# Altium integrated library TI Power Management Power Modules.IntLib: 831 symbols (part 32 of 44)
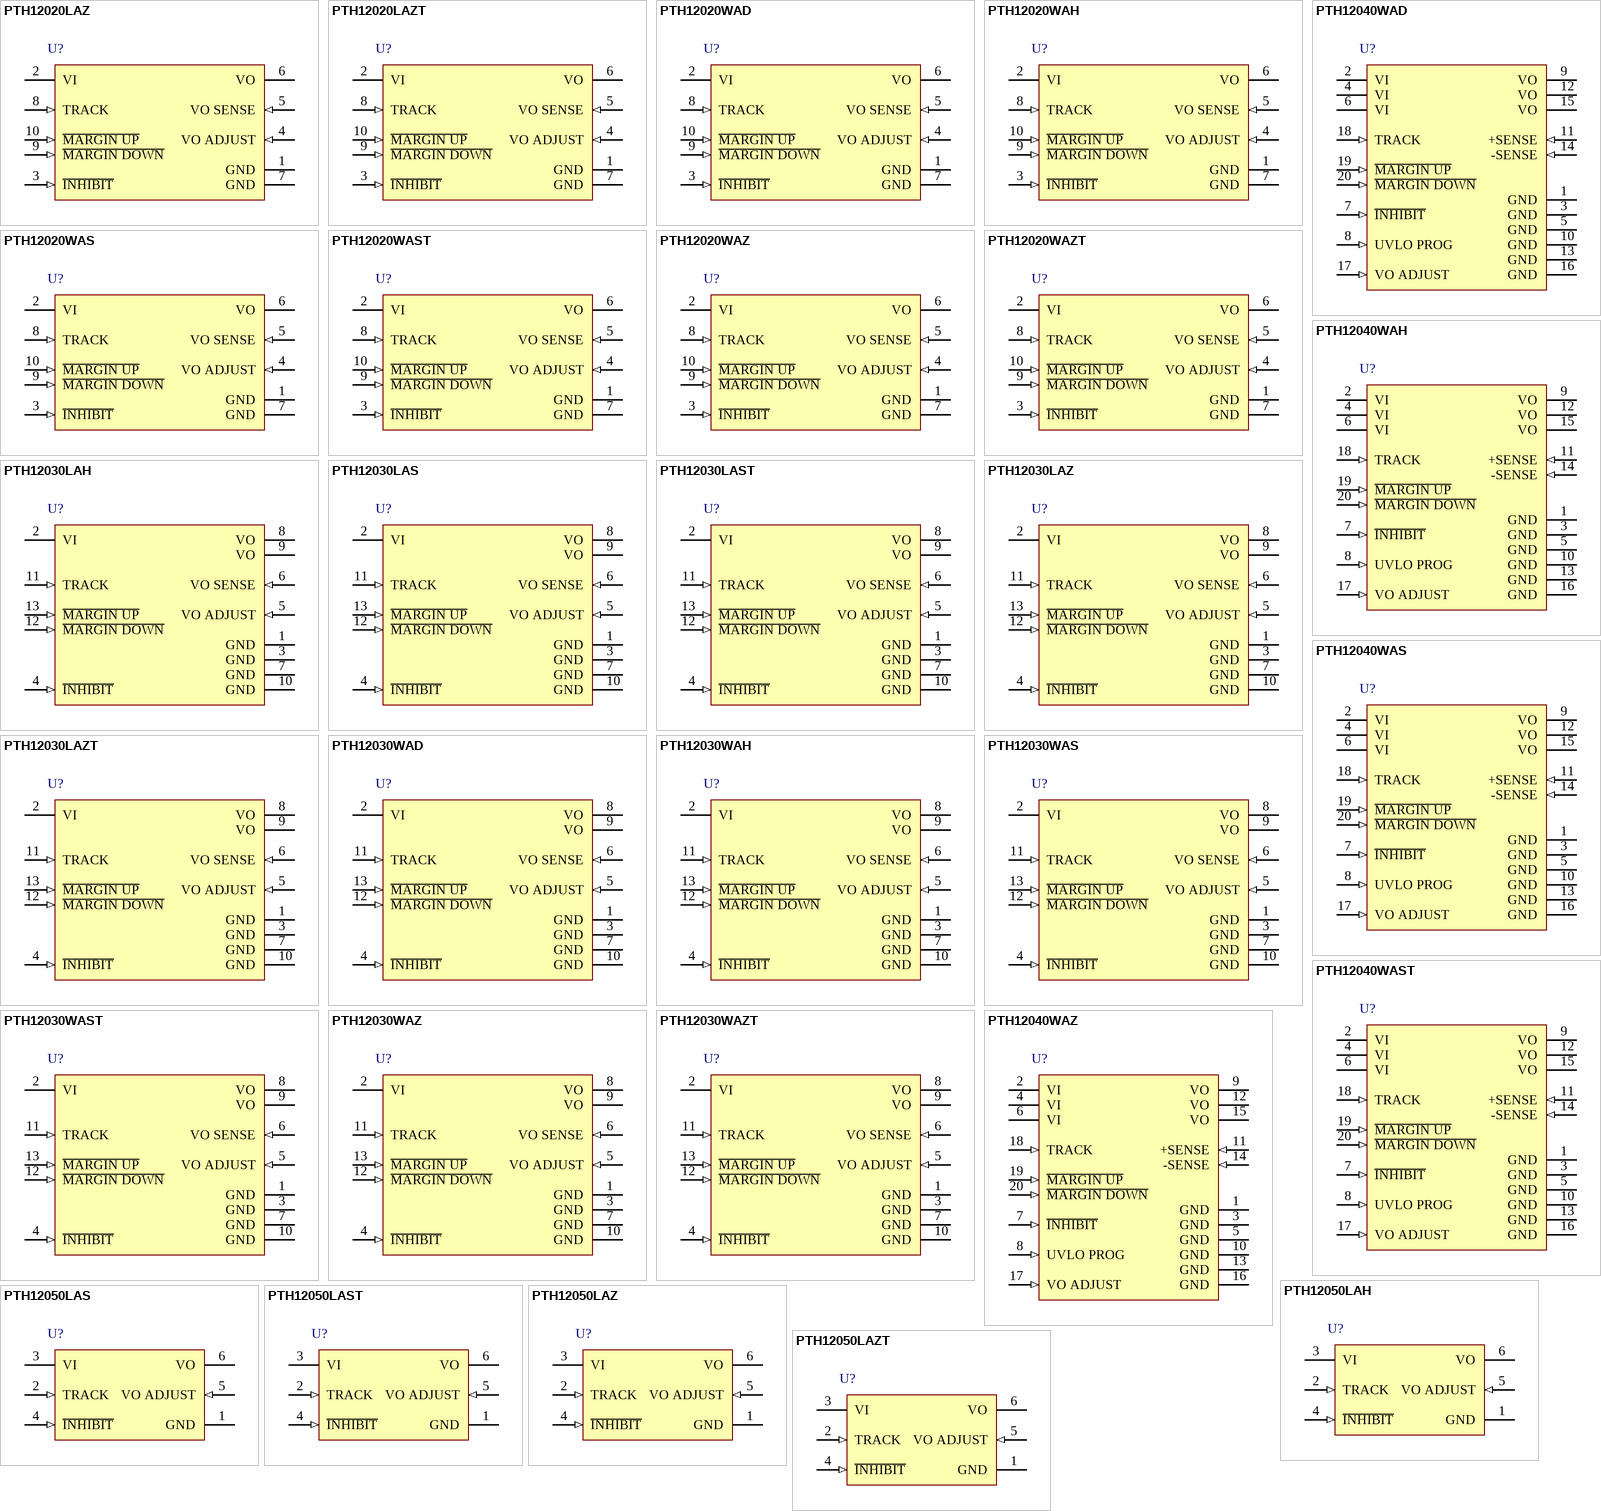
[diagram p54: symbols PTH12020LAZ to PTH12050LAZT]

## PTH12030WAZT
designator U?
1.2 to 5.5 V, 26 A, 12 V Input Non-Isolated Wide Adjust Module, -40 to 85 degC, 13-pin Module (EUN13), Pb-Free (RoHS); Manufacturer: Texas Instruments; PartNumber: PTH12030WAZT; Iout(Max)(A): 26; Regulated Outputs(#): 1; SubFamily: Non-Isolated POL; Vin(Max)(V): 13.8; Vin(Min)(V): 10.2; VO Adjustable: TRUE; Vout(Max)(V): 5.5; Vout(Min)(V): 1.2; DatasheetVersion: SLTS211H; PackageVersion: 4204989/B; PackageReference: EUN13; PackageDescription: 13-Pin Plastic Special Shape. Body 28.45 x 34.8 mm; Supplier 1: Digi-Key; Supplier Part Number 1: PTH12030WAZT-ND; Supplier 2: Newark; Supplier Part Number 2: 37K0749; Supplier 3: Mouser; Supplier Part Number 3: 595-PTH12030WAZT; Eco-Plan: Pb-Free (RoHS); Mounting Technology: Surface Mount; ComponentLink1Description: Manufacturer URL; ComponentLink1URL: http://www.ti.com/; ComponentLink2Description: Datasheet; ComponentLink2URL: http://www.ti.com/general/docs/lit/getliterature.tsp?genericPartNumber=PTH12030W&fileType=pdf; ComponentLink3Description: Package Specification; ComponentLink3URL: http://www.ti.com/lit/ml/mpds135a/mpds135a.pdf; ComponentLink4Description: URL Link1; ComponentLink4URL: Samples URL:http://www.ti.com/product/pth12030w#samples
footprint TI-EUN13_V (Module, 13-Leads, Body 34.8x28.45mm)
pins: 1 GND (power) "This is the common ground connection for the VI and VO power connections. It is also the 0 Vdc reference for the control inputs.", 2 VI (power) "The positive input voltage power node to the module, which is referenced to common GND.", 3 GND (power) "This is the common ground connection for the VI and VO power connections. It is also the 0 Vdc reference for the control inputs.", 4 ~{INHIBIT} (in) "The Inhibit pin is an open-collector/drain negative logic input that is referenced to GND. Applying a low-level ground signal to this input disables the module’s output and turns off the output voltage. When the Inhibit (See Datasheet)", 5 VO ADJUST (in) "A 1% resistor must be directly connected between this pin and pin 7 (GND) to set the output voltage to a value higher than 0.8 V. The temperature stability of the resistor should be 100 ppm/degreesC (or better). The set (See Datasheet)", 6 VO SENSE (in) "The sense input allows the regulation circuit to compensate for voltage drop between the module and the load. For optimal voltage accuracy, VO Sense should be connected to Vout. It can also be left disconnected.", 7 GND (power) "This is the common ground connection for the VI and VO power connections. It is also the 0 Vdc reference for the control inputs.", 8 VO (power) "The regulated positive power output with respect to the GND node.", 9 VO (power) "The regulated positive power output with respect to the GND node.", 10 GND (power) "This is the common ground connection for the VI and VO power connections. It is also the 0 Vdc reference for the control inputs.", 11 TRACK (in) "This is an analog control input that enables the output voltage to follow an external voltage. This pin becomes active typically 20 ms after the input voltage has been applied, and allows direct control of the output voltage (See Datasheet)", 12 ~{MARGIN DOWN} (in) "When this input is asserted to GND, the output voltage is decreased by 5% from the nominal. The input requires an open-collector (open-drain) interface. It is not TTL compatible. A lower percent change can be accomodated (See Datasheet)", 13 ~{MARGIN UP} (in) "When this input is asserted to GND, the output voltage is increased by 5%. The input requires an open-collector (open-drain) interface. It is not TTL compatible. The percent change can be reduced with a series resistor. For (See Datasheet)"

## PTH12040WAD
designator U?
50 A, 8 to 14 V Input, Wide-Output Adjust Power Module, -40 to 85 degC, 20-pin Module (EVF20), Pb-Free (RoHS); Manufacturer: Texas Instruments; PartNumber: PTH12040WAD; Iout(Max)(A): 50; Regulated Outputs(#): 1; SubFamily: Non-Isolated POL; Vin(Max)(V): 14; Vin(Min)(V): 8; VO Adjustable: TRUE; Vout(Max)(V): 5.5; Vout(Min)(V): 0.8; DatasheetVersion: SLTS237G; PackageVersion: 4205911/A; PackageReference: EVF20; PackageDescription: 20-Pin Plastic Special Shape, Body 26.54 x 51.94 mm; Supplier 1: Digi-Key; Supplier Part Number 1: 296-26313-ND; Supplier 2: Newark; Supplier Part Number 2: 63K6093; Supplier 3: Mouser; Supplier Part Number 3: 595-PTH12040WAD; Eco-Plan: Pb-Free (RoHS); Mounting Technology: Through Hole; ComponentLink1Description: Manufacturer URL; ComponentLink1URL: http://www.ti.com/; ComponentLink2Description: Datasheet; ComponentLink2URL: http://www.ti.com/general/docs/lit/getliterature.tsp?genericPartNumber=PTH12040W&fileType=pdf; ComponentLink3Description: Package Specification; ComponentLink3URL: http://www.ti.com/litv/pdf/mpds166; ComponentLink4Description: URL Link1; ComponentLink4URL: Samples URL:http://www.ti.com/product/pth12040w#samples
footprint TI-EVF20_V (Module, 20-Leads, Body 51.94x26.54mm)
pins: 1 GND (power) "This is the common ground connection for the VI and VO power connections. It is also the 0 Vdc reference for the control inputs.", 2 VI (power) "The positive input voltage power node to the module, which is referenced to common GND.", 3 GND (power) "This is the common ground connection for the VI and VO power connections. It is also the 0 Vdc reference for the control inputs.", 4 VI (power) "The positive input voltage power node to the module, which is referenced to common GND.", 5 GND (power) "This is the common ground connection for the VI and VO power connections. It is also the 0 Vdc reference for the control inputs.", 6 VI (power) "The positive input voltage power node to the module, which is referenced to common GND.", 7 ~{INHIBIT} (in) "The Inhibit pin is an open-collector/drain negative logic input that is referenced to GND. Applying a low level ground signal to this input disables the module’s output and turns off the output voltage. When the Inhibit (See Datasheet)", 8 UVLO PROG (in) "Connecting a resistor from this pin to signal ground allows the on threshold of the input undervoltage lockout (UVLO) to be adjusted higher than the default value. The hysterisis can also be independently reduced by (See Datasheet)", 9 VO (power) "The regulated positive power output with respect to the GND node.", 10 GND (power) "This is the common ground connection for the VI and VO power connections. It is also the 0 Vdc reference for the control inputs.", 11 +SENSE (in) "The sense inputs allow the regulation circuit to compensate for voltage drop between the module and the load. For optimal voltage accuracy, +Sense should be connected to VO. If it is left open, a low-value internal resistor (See Datasheet)", 12 VO (power) "The regulated positive power output with respect to the GND node.", 13 GND (power) "This is the common ground connection for the VI and VO power connections. It is also the 0 Vdc reference for the control inputs.", 14 -SENSE (in) "For optimal voltage accuracy, -Sense should be connected to the ground return at the load. If it is left open, a low-value internal resistor ensures that the output remains in regulation.", 15 VO (power) "The regulated positive power output with respect to the GND node.", 16 GND (power) "This is the common ground connection for the VI and VO power connections. It is also the 0 Vdc reference for the control inputs.", 17 VO ADJUST (in) "A 1%, 0.05-W resistor must be connected between this pin and GND to set the output voltage higher than the minimum value. The set-point range for the output voltage is from 0.8 V to 2.5 V. The resistor required for a given (See Datasheet)", 18 TRACK (in) "This is an analog control input that allows the output voltage to follow another voltage during power up and power down sequences. The pin is active from 0 V, up to the nominal set-point voltage. Within this range, the (See Datasheet)", 19 ~{MARGIN UP} (in) "When this input is asserted to GND, the output voltage is increased by 5%. The input requires an open collector (open-drain) interface. It is not TTL compatible. The percent change can be reduced with a series resistor. For (See Datasheet)", 20 ~{MARGIN DOWN} (in) "When this input is asserted to GND, the output voltage is decreased by 5% from the nominal. The input requires an open-collector (open-drain) interface. It is not TTL compatible. A lower percent change can be accommodated (See Datasheet)"

## PTH12040WAH
designator U?
50 A, 8 to 14 V Input, Wide-Output Adjust Power Module, -40 to 85 degC, 20-pin Module (EVF20), Pb-Free (RoHS); Manufacturer: Texas Instruments; PartNumber: PTH12040WAH; Iout(Max)(A): 50; Regulated Outputs(#): 1; SubFamily: Non-Isolated POL; Vin(Max)(V): 14; Vin(Min)(V): 8; VO Adjustable: TRUE; Vout(Max)(V): 5.5; Vout(Min)(V): 0.8; DatasheetVersion: SLTS237G; PackageVersion: 4205911/A; PackageReference: EVF20; PackageDescription: 20-Pin Plastic Special Shape, Body 26.54 x 51.94 mm; Supplier 1: Digi-Key; Supplier Part Number 1: 296-20472-ND; Supplier 2: Newark; Supplier Part Number 2: 71J7322; Supplier 3: Mouser; Supplier Part Number 3: 595-PTH12040WAH; Eco-Plan: Pb-Free (RoHS); Mounting Technology: Through Hole; ComponentLink1Description: Manufacturer URL; ComponentLink1URL: http://www.ti.com/; ComponentLink2Description: Datasheet; ComponentLink2URL: http://www.ti.com/general/docs/lit/getliterature.tsp?genericPartNumber=PTH12040W&fileType=pdf; ComponentLink3Description: Package Specification; ComponentLink3URL: http://www.ti.com/litv/pdf/mpds166; ComponentLink4Description: URL Link1; ComponentLink4URL: Samples URL:http://www.ti.com/product/pth12040w#samples
footprint TI-EVF20_V (Module, 20-Leads, Body 51.94x26.54mm)
pins: 1 GND (power) "This is the common ground connection for the VI and VO power connections. It is also the 0 Vdc reference for the control inputs.", 2 VI (power) "The positive input voltage power node to the module, which is referenced to common GND.", 3 GND (power) "This is the common ground connection for the VI and VO power connections. It is also the 0 Vdc reference for the control inputs.", 4 VI (power) "The positive input voltage power node to the module, which is referenced to common GND.", 5 GND (power) "This is the common ground connection for the VI and VO power connections. It is also the 0 Vdc reference for the control inputs.", 6 VI (power) "The positive input voltage power node to the module, which is referenced to common GND.", 7 ~{INHIBIT} (in) "The Inhibit pin is an open-collector/drain negative logic input that is referenced to GND. Applying a low level ground signal to this input disables the module’s output and turns off the output voltage. When the Inhibit (See Datasheet)", 8 UVLO PROG (in) "Connecting a resistor from this pin to signal ground allows the on threshold of the input undervoltage lockout (UVLO) to be adjusted higher than the default value. The hysterisis can also be independently reduced by (See Datasheet)", 9 VO (power) "The regulated positive power output with respect to the GND node.", 10 GND (power) "This is the common ground connection for the VI and VO power connections. It is also the 0 Vdc reference for the control inputs.", 11 +SENSE (in) "The sense inputs allow the regulation circuit to compensate for voltage drop between the module and the load. For optimal voltage accuracy, +Sense should be connected to VO. If it is left open, a low-value internal resistor (See Datasheet)", 12 VO (power) "The regulated positive power output with respect to the GND node.", 13 GND (power) "This is the common ground connection for the VI and VO power connections. It is also the 0 Vdc reference for the control inputs.", 14 -SENSE (in) "For optimal voltage accuracy, -Sense should be connected to the ground return at the load. If it is left open, a low-value internal resistor ensures that the output remains in regulation.", 15 VO (power) "The regulated positive power output with respect to the GND node.", 16 GND (power) "This is the common ground connection for the VI and VO power connections. It is also the 0 Vdc reference for the control inputs.", 17 VO ADJUST (in) "A 1%, 0.05-W resistor must be connected between this pin and GND to set the output voltage higher than the minimum value. The set-point range for the output voltage is from 0.8 V to 2.5 V. The resistor required for a given (See Datasheet)", 18 TRACK (in) "This is an analog control input that allows the output voltage to follow another voltage during power up and power down sequences. The pin is active from 0 V, up to the nominal set-point voltage. Within this range, the (See Datasheet)", 19 ~{MARGIN UP} (in) "When this input is asserted to GND, the output voltage is increased by 5%. The input requires an open collector (open-drain) interface. It is not TTL compatible. The percent change can be reduced with a series resistor. For (See Datasheet)", 20 ~{MARGIN DOWN} (in) "When this input is asserted to GND, the output voltage is decreased by 5% from the nominal. The input requires an open-collector (open-drain) interface. It is not TTL compatible. A lower percent change can be accommodated (See Datasheet)"

## PTH12040WAS
designator U?
50 A, 8 to 14 V Input, Wide-Output Adjust Power Module, -40 to 85 degC, 20-pin Module (EVG20); Manufacturer: Texas Instruments; PartNumber: PTH12040WAS; Eco-Plan: TBD; Iout(Max)(A): 50; Regulated Outputs(#): 1; SubFamily: Non-Isolated POL; Vin(Max)(V): 14; Vin(Min)(V): 8; VO Adjustable: TRUE; Vout(Max)(V): 5.5; Vout(Min)(V): 0.8; DatasheetVersion: SLTS237G; PackageVersion: 4205912/A; PackageReference: EVG20; PackageDescription: 20-Pin Plastic Special Shape, Body 26.54 x 51.94 mm; Supplier 1: Digi-Key; Supplier Part Number 1: 296-20473-ND; Supplier 2: Newark; Supplier Part Number 2: 71J7323; Supplier 3: Mouser; Supplier Part Number 3: 595-PTH12040WAS; Mounting Technology: Surface Mount; ComponentLink1Description: Manufacturer URL; ComponentLink1URL: http://www.ti.com/; ComponentLink2Description: Datasheet; ComponentLink2URL: http://www.ti.com/general/docs/lit/getliterature.tsp?genericPartNumber=PTH12040W&fileType=pdf; ComponentLink3Description: Package Specification; ComponentLink3URL: http://www.ti.com/lit/ml/mpds167/mpds167.pdf; ComponentLink4Description: URL Link1; ComponentLink4URL: Samples URL:http://www.ti.com/product/pth12040w#samples
footprint TI-EVG20_V (Module, 20-Leads, Body 51.94x26.54mm)
pins: 1 GND (power) "This is the common ground connection for the VI and VO power connections. It is also the 0 Vdc reference for the control inputs.", 2 VI (power) "The positive input voltage power node to the module, which is referenced to common GND.", 3 GND (power) "This is the common ground connection for the VI and VO power connections. It is also the 0 Vdc reference for the control inputs.", 4 VI (power) "The positive input voltage power node to the module, which is referenced to common GND.", 5 GND (power) "This is the common ground connection for the VI and VO power connections. It is also the 0 Vdc reference for the control inputs.", 6 VI (power) "The positive input voltage power node to the module, which is referenced to common GND.", 7 ~{INHIBIT} (in) "The Inhibit pin is an open-collector/drain negative logic input that is referenced to GND. Applying a low level ground signal to this input disables the module’s output and turns off the output voltage. When the Inhibit (See Datasheet)", 8 UVLO PROG (in) "Connecting a resistor from this pin to signal ground allows the on threshold of the input undervoltage lockout (UVLO) to be adjusted higher than the default value. The hysterisis can also be independently reduced by (See Datasheet)", 9 VO (power) "The regulated positive power output with respect to the GND node.", 10 GND (power) "This is the common ground connection for the VI and VO power connections. It is also the 0 Vdc reference for the control inputs.", 11 +SENSE (in) "The sense inputs allow the regulation circuit to compensate for voltage drop between the module and the load. For optimal voltage accuracy, +Sense should be connected to VO. If it is left open, a low-value internal resistor (See Datasheet)", 12 VO (power) "The regulated positive power output with respect to the GND node.", 13 GND (power) "This is the common ground connection for the VI and VO power connections. It is also the 0 Vdc reference for the control inputs.", 14 -SENSE (in) "For optimal voltage accuracy, -Sense should be connected to the ground return at the load. If it is left open, a low-value internal resistor ensures that the output remains in regulation.", 15 VO (power) "The regulated positive power output with respect to the GND node.", 16 GND (power) "This is the common ground connection for the VI and VO power connections. It is also the 0 Vdc reference for the control inputs.", 17 VO ADJUST (in) "A 1%, 0.05-W resistor must be connected between this pin and GND to set the output voltage higher than the minimum value. The set-point range for the output voltage is from 0.8 V to 2.5 V. The resistor required for a given (See Datasheet)", 18 TRACK (in) "This is an analog control input that allows the output voltage to follow another voltage during power up and power down sequences. The pin is active from 0 V, up to the nominal set-point voltage. Within this range, the (See Datasheet)", 19 ~{MARGIN UP} (in) "When this input is asserted to GND, the output voltage is increased by 5%. The input requires an open collector (open-drain) interface. It is not TTL compatible. The percent change can be reduced with a series resistor. For (See Datasheet)", 20 ~{MARGIN DOWN} (in) "When this input is asserted to GND, the output voltage is decreased by 5% from the nominal. The input requires an open-collector (open-drain) interface. It is not TTL compatible. A lower percent change can be accommodated (See Datasheet)"

## PTH12040WAST
designator U?
50 A, 8 to 14 V Input, Wide-Output Adjust Power Module, -40 to 85 degC, 20-pin Module (EVG20); Manufacturer: Texas Instruments; PartNumber: PTH12040WAST; Eco-Plan: TBD; Iout(Max)(A): 50; Regulated Outputs(#): 1; SubFamily: Non-Isolated POL; Vin(Max)(V): 14; Vin(Min)(V): 8; VO Adjustable: TRUE; Vout(Max)(V): 5.5; Vout(Min)(V): 0.8; DatasheetVersion: SLTS237G; PackageVersion: 4205912/A; PackageReference: EVG20; PackageDescription: 20-Pin Plastic Special Shape, Body 26.54 x 51.94 mm; Supplier 1: Digi-Key; Supplier Part Number 1: PTH12040WAST-ND; Supplier 2: Mouser; Supplier Part Number 2: 595-PTH12040WAST; Mounting Technology: Surface Mount; ComponentLink1Description: Manufacturer URL; ComponentLink1URL: http://www.ti.com/; ComponentLink2Description: Datasheet; ComponentLink2URL: http://www.ti.com/general/docs/lit/getliterature.tsp?genericPartNumber=PTH12040W&fileType=pdf; ComponentLink3Description: Package Specification; ComponentLink3URL: http://www.ti.com/lit/ml/mpds167/mpds167.pdf; ComponentLink4Description: URL Link1; ComponentLink4URL: Samples URL:http://www.ti.com/product/pth12040w#samples
footprint TI-EVG20_V (Module, 20-Leads, Body 51.94x26.54mm)
pins: 1 GND (power) "This is the common ground connection for the VI and VO power connections. It is also the 0 Vdc reference for the control inputs.", 2 VI (power) "The positive input voltage power node to the module, which is referenced to common GND.", 3 GND (power) "This is the common ground connection for the VI and VO power connections. It is also the 0 Vdc reference for the control inputs.", 4 VI (power) "The positive input voltage power node to the module, which is referenced to common GND.", 5 GND (power) "This is the common ground connection for the VI and VO power connections. It is also the 0 Vdc reference for the control inputs.", 6 VI (power) "The positive input voltage power node to the module, which is referenced to common GND.", 7 ~{INHIBIT} (in) "The Inhibit pin is an open-collector/drain negative logic input that is referenced to GND. Applying a low level ground signal to this input disables the module’s output and turns off the output voltage. When the Inhibit (See Datasheet)", 8 UVLO PROG (in) "Connecting a resistor from this pin to signal ground allows the on threshold of the input undervoltage lockout (UVLO) to be adjusted higher than the default value. The hysterisis can also be independently reduced by (See Datasheet)", 9 VO (power) "The regulated positive power output with respect to the GND node.", 10 GND (power) "This is the common ground connection for the VI and VO power connections. It is also the 0 Vdc reference for the control inputs.", 11 +SENSE (in) "The sense inputs allow the regulation circuit to compensate for voltage drop between the module and the load. For optimal voltage accuracy, +Sense should be connected to VO. If it is left open, a low-value internal resistor (See Datasheet)", 12 VO (power) "The regulated positive power output with respect to the GND node.", 13 GND (power) "This is the common ground connection for the VI and VO power connections. It is also the 0 Vdc reference for the control inputs.", 14 -SENSE (in) "For optimal voltage accuracy, -Sense should be connected to the ground return at the load. If it is left open, a low-value internal resistor ensures that the output remains in regulation.", 15 VO (power) "The regulated positive power output with respect to the GND node.", 16 GND (power) "This is the common ground connection for the VI and VO power connections. It is also the 0 Vdc reference for the control inputs.", 17 VO ADJUST (in) "A 1%, 0.05-W resistor must be connected between this pin and GND to set the output voltage higher than the minimum value. The set-point range for the output voltage is from 0.8 V to 2.5 V. The resistor required for a given (See Datasheet)", 18 TRACK (in) "This is an analog control input that allows the output voltage to follow another voltage during power up and power down sequences. The pin is active from 0 V, up to the nominal set-point voltage. Within this range, the (See Datasheet)", 19 ~{MARGIN UP} (in) "When this input is asserted to GND, the output voltage is increased by 5%. The input requires an open collector (open-drain) interface. It is not TTL compatible. The percent change can be reduced with a series resistor. For (See Datasheet)", 20 ~{MARGIN DOWN} (in) "When this input is asserted to GND, the output voltage is decreased by 5% from the nominal. The input requires an open-collector (open-drain) interface. It is not TTL compatible. A lower percent change can be accommodated (See Datasheet)"

## PTH12040WAZ
designator U?
50 A, 8 to 14 V Input, Wide-Output Adjust Power Module, -40 to 85 degC, 20-pin Module (EVG20), Pb-Free (RoHS); Manufacturer: Texas Instruments; PartNumber: PTH12040WAZ; Iout(Max)(A): 50; Regulated Outputs(#): 1; SubFamily: Non-Isolated POL; Vin(Max)(V): 14; Vin(Min)(V): 8; VO Adjustable: TRUE; Vout(Max)(V): 5.5; Vout(Min)(V): 0.8; DatasheetVersion: SLTS237G; PackageVersion: 4205912/A; PackageReference: EVG20; PackageDescription: 20-Pin Plastic Special Shape, Body 26.54 x 51.94 mm; Supplier 1: Digi-Key; Supplier Part Number 1: 296-20985-ND; Supplier 2: Newark; Supplier Part Number 2: 57K1191; Supplier 3: Mouser; Supplier Part Number 3: 595-PTH12040WAZ; Eco-Plan: Pb-Free (RoHS); Mounting Technology: Surface Mount; ComponentLink1Description: Manufacturer URL; ComponentLink1URL: http://www.ti.com/; ComponentLink2Description: Datasheet; ComponentLink2URL: http://www.ti.com/general/docs/lit/getliterature.tsp?genericPartNumber=PTH12040W&fileType=pdf; ComponentLink3Description: Package Specification; ComponentLink3URL: http://www.ti.com/lit/ml/mpds167/mpds167.pdf; ComponentLink4Description: URL Link1; ComponentLink4URL: Samples URL:http://www.ti.com/product/pth12040w#samples
footprint TI-EVG20_V (Module, 20-Leads, Body 51.94x26.54mm)
pins: 1 GND (power) "This is the common ground connection for the VI and VO power connections. It is also the 0 Vdc reference for the control inputs.", 2 VI (power) "The positive input voltage power node to the module, which is referenced to common GND.", 3 GND (power) "This is the common ground connection for the VI and VO power connections. It is also the 0 Vdc reference for the control inputs.", 4 VI (power) "The positive input voltage power node to the module, which is referenced to common GND.", 5 GND (power) "This is the common ground connection for the VI and VO power connections. It is also the 0 Vdc reference for the control inputs.", 6 VI (power) "The positive input voltage power node to the module, which is referenced to common GND.", 7 ~{INHIBIT} (in) "The Inhibit pin is an open-collector/drain negative logic input that is referenced to GND. Applying a low level ground signal to this input disables the module’s output and turns off the output voltage. When the Inhibit (See Datasheet)", 8 UVLO PROG (in) "Connecting a resistor from this pin to signal ground allows the on threshold of the input undervoltage lockout (UVLO) to be adjusted higher than the default value. The hysterisis can also be independently reduced by (See Datasheet)", 9 VO (power) "The regulated positive power output with respect to the GND node.", 10 GND (power) "This is the common ground connection for the VI and VO power connections. It is also the 0 Vdc reference for the control inputs.", 11 +SENSE (in) "The sense inputs allow the regulation circuit to compensate for voltage drop between the module and the load. For optimal voltage accuracy, +Sense should be connected to VO. If it is left open, a low-value internal resistor (See Datasheet)", 12 VO (power) "The regulated positive power output with respect to the GND node.", 13 GND (power) "This is the common ground connection for the VI and VO power connections. It is also the 0 Vdc reference for the control inputs.", 14 -SENSE (in) "For optimal voltage accuracy, -Sense should be connected to the ground return at the load. If it is left open, a low-value internal resistor ensures that the output remains in regulation.", 15 VO (power) "The regulated positive power output with respect to the GND node.", 16 GND (power) "This is the common ground connection for the VI and VO power connections. It is also the 0 Vdc reference for the control inputs.", 17 VO ADJUST (in) "A 1%, 0.05-W resistor must be connected between this pin and GND to set the output voltage higher than the minimum value. The set-point range for the output voltage is from 0.8 V to 2.5 V. The resistor required for a given (See Datasheet)", 18 TRACK (in) "This is an analog control input that allows the output voltage to follow another voltage during power up and power down sequences. The pin is active from 0 V, up to the nominal set-point voltage. Within this range, the (See Datasheet)", 19 ~{MARGIN UP} (in) "When this input is asserted to GND, the output voltage is increased by 5%. The input requires an open collector (open-drain) interface. It is not TTL compatible. The percent change can be reduced with a series resistor. For (See Datasheet)", 20 ~{MARGIN DOWN} (in) "When this input is asserted to GND, the output voltage is decreased by 5% from the nominal. The input requires an open-collector (open-drain) interface. It is not TTL compatible. A lower percent change can be accommodated (See Datasheet)"

## PTH12050LAH
designator U?
0.8 to 1.8 V, 6 A, 12 V Input Wide Adjust Module with Auto-Track, -40 to 85 degC, 6-pin Module (EUU6), Pb-Free (RoHS); Manufacturer: Texas Instruments; PartNumber: PTH12050LAH; Iout(Max)(A): 6; Regulated Outputs(#): 1; SubFamily: Non-Isolated POL; Vin(Max)(V): 13.2; Vin(Min)(V): 10.8; VO Adjustable: TRUE; Vout(Max)(V): 1.8; Vout(Min)(V): 0.8; DatasheetVersion: SLTS214H; PackageVersion: 4205246-4/C; PackageReference: EUU6; PackageDescription: 6-Pin Plastic Special Shape, Body 12.57 x 22.1 mm; Supplier 1: Digi-Key; Supplier Part Number 1: 296-20474-ND; Supplier 2: Newark; Supplier Part Number 2: 01J0652; Supplier 3: Mouser; Supplier Part Number 3: 595-PTH12050LAH; Eco-Plan: Pb-Free (RoHS); Mounting Technology: Through Hole; ComponentLink1Description: Manufacturer URL; ComponentLink1URL: http://www.ti.com/; ComponentLink2Description: Datasheet; ComponentLink2URL: http://www.ti.com/general/docs/lit/getliterature.tsp?genericPartNumber=PTH12050L&fileType=pdf; ComponentLink3Description: Package Specification; ComponentLink3URL: http://www.ti.com/lit/ml/mpds142b/mpds142b.pdf; ComponentLink4Description: URL Link1; ComponentLink4URL: Samples URL:http://www.ti.com/product/pth12050l#samples
footprint TI-EUU6_V (Module, 6-Leads, Body 22.1.12x12.57mm)
pins: 1 GND (power) "This is the common ground connection for the VI and VO power connections. It is also the 0-VDC reference for the Inhibit , VO Adjust, and Track control inputs.", 2 TRACK (in) "This is an analog control input that enables the output voltage to follow an external voltage. This pin becomes active typically 20 ms after the input voltage has been applied, and allows direct control of the output voltage (See Datasheet)", 3 VI (power) "The positive input voltage power node to the module, which is referenced to common GND.", 4 ~{INHIBIT} (in) "The Inhibit pin is an open-collector/drain-negative logic input that is referenced to GND. Applying a low-level ground signal to this input disables the module's output. When the Inhibit control is active, the input current (See Datasheet)", 5 VO ADJUST (in) "A 1% resistor must be connected between this pin and GND (pin 1) to set the output voltage of the module higher than 0.9 V. If left open-circuit, the output voltage defaults to this value. The temperature stability of the (See Datasheet)", 6 VO (power) "The regulated positive power output with respect to the GND node."

## PTH12050LAS
designator U?
0.8 to 1.8 V, 6 A, 12 V Input Wide Adjust Module with Auto-Track, -40 to 85 degC, 6-pin Module (EUV6); Manufacturer: Texas Instruments; PartNumber: PTH12050LAS; Eco-Plan: TBD; Iout(Max)(A): 6; Regulated Outputs(#): 1; SubFamily: Non-Isolated POL; Vin(Max)(V): 13.2; Vin(Min)(V): 10.8; VO Adjustable: TRUE; Vout(Max)(V): 1.8; Vout(Min)(V): 0.8; DatasheetVersion: SLTS214H; PackageVersion: 4205247-4/C; PackageReference: EUV6; PackageDescription: 6-Pin Plastic Special Shape, Body 12.57 x 22.1 mm; Supplier 1: Digi-Key; Supplier Part Number 1: 296-20475-ND; Supplier 2: Mouser; Supplier Part Number 2: 595-PTH12050LAS; Mounting Technology: Surface Mount; ComponentLink1Description: Manufacturer URL; ComponentLink1URL: http://www.ti.com/; ComponentLink2Description: Datasheet; ComponentLink2URL: http://www.ti.com/general/docs/lit/getliterature.tsp?genericPartNumber=PTH12050L&fileType=pdf; ComponentLink3Description: Package Specification; ComponentLink3URL: http://www.ti.com/lit/ml/mpds143b/mpds143b.pdf; ComponentLink4Description: URL Link1; ComponentLink4URL: Samples URL:http://www.ti.com/product/pth12050l#samples
footprint TI-EUV6_V (Module, 6-Leads, Body 22.1x12.57mm)
pins: 1 GND (power) "This is the common ground connection for the VI and VO power connections. It is also the 0-VDC reference for the Inhibit , VO Adjust, and Track control inputs.", 2 TRACK (in) "This is an analog control input that enables the output voltage to follow an external voltage. This pin becomes active typically 20 ms after the input voltage has been applied, and allows direct control of the output voltage (See Datasheet)", 3 VI (power) "The positive input voltage power node to the module, which is referenced to common GND.", 4 ~{INHIBIT} (in) "The Inhibit pin is an open-collector/drain-negative logic input that is referenced to GND. Applying a low-level ground signal to this input disables the module's output. When the Inhibit control is active, the input current (See Datasheet)", 5 VO ADJUST (in) "A 1% resistor must be connected between this pin and GND (pin 1) to set the output voltage of the module higher than 0.9 V. If left open-circuit, the output voltage defaults to this value. The temperature stability of the (See Datasheet)", 6 VO (power) "The regulated positive power output with respect to the GND node."

## PTH12050LAST
designator U?
0.8 to 1.8 V, 6 A, 12 V Input Wide Adjust Module with Auto-Track, -40 to 85 degC, 6-pin Module (EUV6); Manufacturer: Texas Instruments; PartNumber: PTH12050LAST; Eco-Plan: TBD; Iout(Max)(A): 6; Regulated Outputs(#): 1; SubFamily: Non-Isolated POL; Vin(Max)(V): 13.2; Vin(Min)(V): 10.8; VO Adjustable: TRUE; Vout(Max)(V): 1.8; Vout(Min)(V): 0.8; DatasheetVersion: SLTS214H; PackageVersion: 4205247-4/C; PackageReference: EUV6; PackageDescription: 6-Pin Plastic Special Shape, Body 12.57 x 22.1 mm; Supplier 1: Digi-Key; Supplier Part Number 1: PTH12050LAST-ND; Supplier 2: Newark; Supplier Part Number 2: 01J0654; Supplier 3: Mouser; Supplier Part Number 3: 595-PTH12050LAST; Mounting Technology: Surface Mount; ComponentLink1Description: Manufacturer URL; ComponentLink1URL: http://www.ti.com/; ComponentLink2Description: Datasheet; ComponentLink2URL: http://www.ti.com/general/docs/lit/getliterature.tsp?genericPartNumber=PTH12050L&fileType=pdf; ComponentLink3Description: Package Specification; ComponentLink3URL: http://www.ti.com/lit/ml/mpds143b/mpds143b.pdf; ComponentLink4Description: URL Link1; ComponentLink4URL: Samples URL:http://www.ti.com/product/pth12050l#samples
footprint TI-EUV6_V (Module, 6-Leads, Body 22.1x12.57mm)
pins: 1 GND (power) "This is the common ground connection for the VI and VO power connections. It is also the 0-VDC reference for the Inhibit , VO Adjust, and Track control inputs.", 2 TRACK (in) "This is an analog control input that enables the output voltage to follow an external voltage. This pin becomes active typically 20 ms after the input voltage has been applied, and allows direct control of the output voltage (See Datasheet)", 3 VI (power) "The positive input voltage power node to the module, which is referenced to common GND.", 4 ~{INHIBIT} (in) "The Inhibit pin is an open-collector/drain-negative logic input that is referenced to GND. Applying a low-level ground signal to this input disables the module's output. When the Inhibit control is active, the input current (See Datasheet)", 5 VO ADJUST (in) "A 1% resistor must be connected between this pin and GND (pin 1) to set the output voltage of the module higher than 0.9 V. If left open-circuit, the output voltage defaults to this value. The temperature stability of the (See Datasheet)", 6 VO (power) "The regulated positive power output with respect to the GND node."

## PTH12050LAZ
designator U?
0.8 to 1.8 V, 6 A, 12 V Input Wide Adjust Module with Auto-Track, -40 to 85 degC, 6-pin Module (EUV6), Pb-Free (RoHS); Manufacturer: Texas Instruments; PartNumber: PTH12050LAZ; Iout(Max)(A): 6; Regulated Outputs(#): 1; SubFamily: Non-Isolated POL; Vin(Max)(V): 13.2; Vin(Min)(V): 10.8; VO Adjustable: TRUE; Vout(Max)(V): 1.8; Vout(Min)(V): 0.8; DatasheetVersion: SLTS214H; PackageVersion: 4205247-4/C; PackageReference: EUV6; PackageDescription: 6-Pin Plastic Special Shape, Body 12.57 x 22.1 mm; Supplier 1: Digi-Key; Supplier Part Number 1: 296-20476-ND; Supplier 2: Newark; Supplier Part Number 2: 37K0750; Supplier 3: Mouser; Supplier Part Number 3: 595-PTH12050LAZ; Eco-Plan: Pb-Free (RoHS); Mounting Technology: Surface Mount; ComponentLink1Description: Manufacturer URL; ComponentLink1URL: http://www.ti.com/; ComponentLink2Description: Datasheet; ComponentLink2URL: http://www.ti.com/general/docs/lit/getliterature.tsp?genericPartNumber=PTH12050L&fileType=pdf; ComponentLink3Description: Package Specification; ComponentLink3URL: http://www.ti.com/lit/ml/mpds143b/mpds143b.pdf; ComponentLink4Description: URL Link1; ComponentLink4URL: Samples URL:http://www.ti.com/product/pth12050l#samples
footprint TI-EUV6_V (Module, 6-Leads, Body 22.1x12.57mm)
pins: 1 GND (power) "This is the common ground connection for the VI and VO power connections. It is also the 0-VDC reference for the Inhibit , VO Adjust, and Track control inputs.", 2 TRACK (in) "This is an analog control input that enables the output voltage to follow an external voltage. This pin becomes active typically 20 ms after the input voltage has been applied, and allows direct control of the output voltage (See Datasheet)", 3 VI (power) "The positive input voltage power node to the module, which is referenced to common GND.", 4 ~{INHIBIT} (in) "The Inhibit pin is an open-collector/drain-negative logic input that is referenced to GND. Applying a low-level ground signal to this input disables the module's output. When the Inhibit control is active, the input current (See Datasheet)", 5 VO ADJUST (in) "A 1% resistor must be connected between this pin and GND (pin 1) to set the output voltage of the module higher than 0.9 V. If left open-circuit, the output voltage defaults to this value. The temperature stability of the (See Datasheet)", 6 VO (power) "The regulated positive power output with respect to the GND node."

## PTH12050LAZT
designator U?
0.8 to 1.8 V, 6 A, 12 V Input Wide Adjust Module with Auto-Track, -40 to 85 degC, 6-pin Module (EUV6), Pb-Free (RoHS); Manufacturer: Texas Instruments; PartNumber: PTH12050LAZT; Iout(Max)(A): 6; Regulated Outputs(#): 1; SubFamily: Non-Isolated POL; Vin(Max)(V): 13.2; Vin(Min)(V): 10.8; VO Adjustable: TRUE; Vout(Max)(V): 1.8; Vout(Min)(V): 0.8; DatasheetVersion: SLTS214H; PackageVersion: 4205247-4/C; PackageReference: EUV6; PackageDescription: 6-Pin Plastic Special Shape, Body 12.57 x 22.1 mm; Supplier 1: Digi-Key; Supplier Part Number 1: 296-31713-2-ND; Supplier 2: Digi-Key; Supplier Part Number 2: 296-31713-1-ND; Supplier 3: Digi-Key; Supplier Part Number 3: 296-31713-6-ND; Supplier 4: Newark; Supplier Part Number 4: 37K0751; Supplier 5: Mouser; Supplier Part Number 5: 595-PTH12050LAZT; Eco-Plan: Pb-Free (RoHS); Mounting Technology: Surface Mount; ComponentLink1Description: Manufacturer URL; ComponentLink1URL: http://www.ti.com/; ComponentLink2Description: Datasheet; ComponentLink2URL: http://www.ti.com/general/docs/lit/getliterature.tsp?genericPartNumber=PTH12050L&fileType=pdf; ComponentLink3Description: Package Specification; ComponentLink3URL: http://www.ti.com/lit/ml/mpds143b/mpds143b.pdf; ComponentLink4Description: URL Link1; ComponentLink4URL: Samples URL:http://www.ti.com/product/pth12050l#samples
footprint TI-EUV6_V (Module, 6-Leads, Body 22.1x12.57mm)
pins: 1 GND (power) "This is the common ground connection for the VI and VO power connections. It is also the 0-VDC reference for the Inhibit , VO Adjust, and Track control inputs.", 2 TRACK (in) "This is an analog control input that enables the output voltage to follow an external voltage. This pin becomes active typically 20 ms after the input voltage has been applied, and allows direct control of the output voltage (See Datasheet)", 3 VI (power) "The positive input voltage power node to the module, which is referenced to common GND.", 4 ~{INHIBIT} (in) "The Inhibit pin is an open-collector/drain-negative logic input that is referenced to GND. Applying a low-level ground signal to this input disables the module's output. When the Inhibit control is active, the input current (See Datasheet)", 5 VO ADJUST (in) "A 1% resistor must be connected between this pin and GND (pin 1) to set the output voltage of the module higher than 0.9 V. If left open-circuit, the output voltage defaults to this value. The temperature stability of the (See Datasheet)", 6 VO (power) "The regulated positive power output with respect to the GND node."

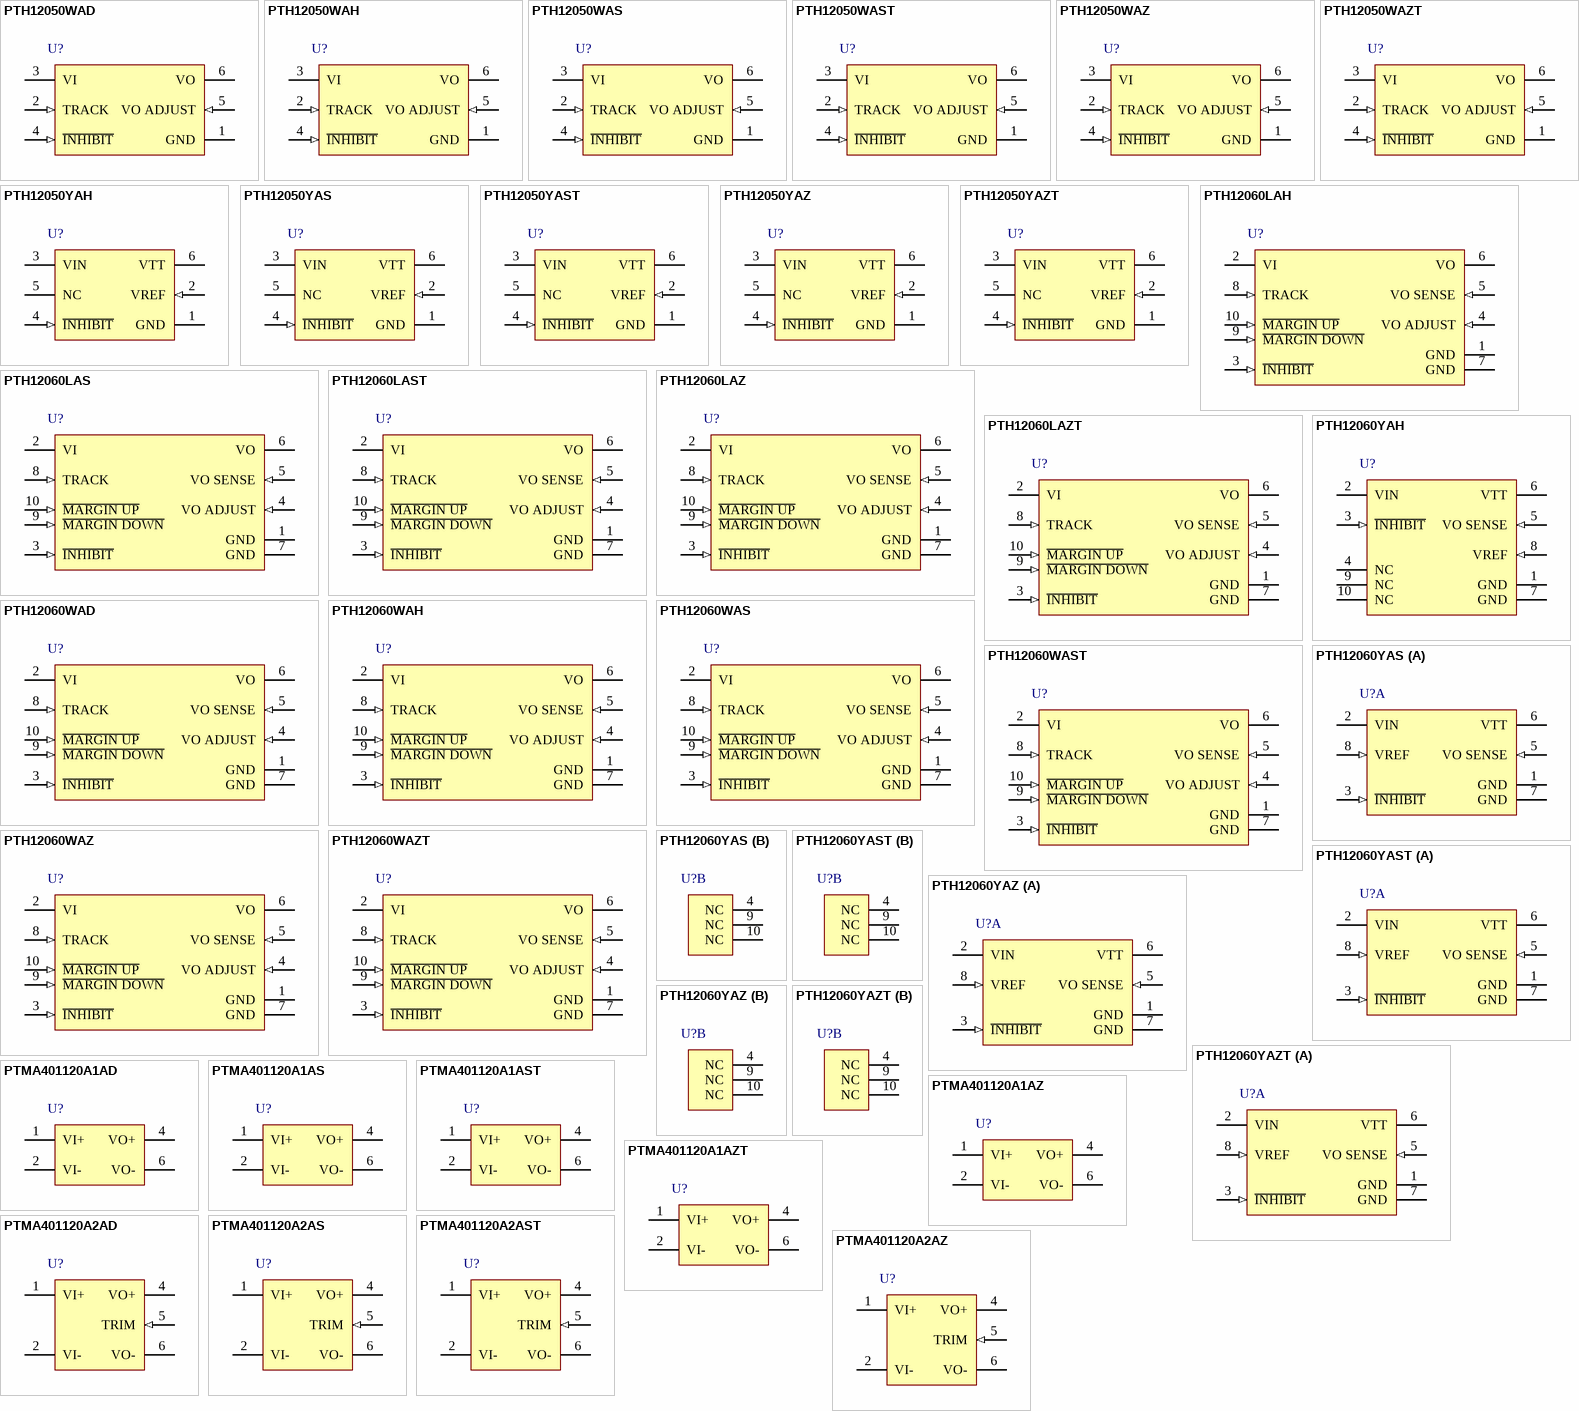
[diagram p18: symbols PTH12050WAD to PTMA401120A2AZ]

## PTH12050WAD
designator U?
1.2 to 5.5 V, 6 A, 12 V Input Non-Isolated Wide Adjust Module, -40 to 85 degC, 6-pin Module (EUU6), Pb-Free (RoHS); Manufacturer: Texas Instruments; PartNumber: PTH12050WAD; Iout(Max)(A): 6; Regulated Outputs(#): 1; SubFamily: Non-Isolated POL; Vin(Max)(V): 13.2; Vin(Min)(V): 10.8; VO Adjustable: TRUE; Vout(Max)(V): 5.5; Vout(Min)(V): 1.2; DatasheetVersion: SLTS214H; PackageVersion: 4205246-4/C; PackageReference: EUU6; PackageDescription: 6-Pin Plastic Special Shape, Body 12.57 x 22.1 mm; Supplier 1: Digi-Key; Supplier Part Number 1: 296-26314-ND; Supplier 2: Farnell; Supplier Part Number 2: 1103299; Supplier 3: Newark; Supplier Part Number 3: 84K8083; Supplier 4: Newark; Supplier Part Number 4: 58K6013; Supplier 5: Mouser; Supplier Part Number 5: 595-PTH12050WAD; Eco-Plan: Pb-Free (RoHS); Mounting Technology: Through Hole; ComponentLink1Description: Manufacturer URL; ComponentLink1URL: http://www.ti.com/; ComponentLink2Description: Datasheet; ComponentLink2URL: http://www.ti.com/general/docs/lit/getliterature.tsp?genericPartNumber=PTH12050W&fileType=pdf; ComponentLink3Description: Package Specification; ComponentLink3URL: http://www.ti.com/lit/ml/mpds142b/mpds142b.pdf; ComponentLink4Description: URL Link1; ComponentLink4URL: Samples URL:http://www.ti.com/product/pth12050w#samples
footprint TI-EUU6_V (Module, 6-Leads, Body 22.1.12x12.57mm)
pins: 1 GND (power) "This is the common ground connection for the VI and VO power connections. It is also the 0-VDC reference for the control inputs.", 2 TRACK (in) "This is an analog control input that enables the output voltage to follow an external voltage. This pin becomes active typically 20 ms after the input voltage has been applied, and allows direct control of the output voltage (See Datasheet)", 3 VI (power) "The positive input voltage power node to the module, which is referenced to common GND.", 4 ~{INHIBIT} (in) "The Inhibit pin is an open-collector/drain negative logic input that is referenced to GND. Applying a low-level ground signal to this input disables the module’s output and turns off the output voltage. When the Inhibit (See Datasheet)", 5 VO ADJUST (in) "A 1% resistor must be directly connected between this pin and GND (pin 1) to set the output voltage of the module to a value higher than its lowest value. The temperature stability of the resistor should be 100 ppm/degreesC (See Datasheet)", 6 VO (power) "The regulated positive power output with respect to the GND node."

## PTH12050WAH
designator U?
1.2 to 5.5 V, 6 A, 12 V Input Non-Isolated Wide Adjust Module, -40 to 85 degC, 6-pin Module (EUU6), Pb-Free (RoHS); Manufacturer: Texas Instruments; PartNumber: PTH12050WAH; Iout(Max)(A): 6; Regulated Outputs(#): 1; SubFamily: Non-Isolated POL; Vin(Max)(V): 13.2; Vin(Min)(V): 10.8; VO Adjustable: TRUE; Vout(Max)(V): 5.5; Vout(Min)(V): 1.2; DatasheetVersion: SLTS214H; PackageVersion: 4205246-4/C; PackageReference: EUU6; PackageDescription: 6-Pin Plastic Special Shape, Body 12.57 x 22.1 mm; Supplier 1: Digi-Key; Supplier Part Number 1: 296-20477-ND; Supplier 2: Farnell; Supplier Part Number 2: 1212258; Supplier 3: Newark; Supplier Part Number 3: 02M9990; Supplier 4: Mouser; Supplier Part Number 4: 595-PTH12050WAH; Eco-Plan: Pb-Free (RoHS); Mounting Technology: Through Hole; ComponentLink1Description: Manufacturer URL; ComponentLink1URL: http://www.ti.com/; ComponentLink2Description: Datasheet; ComponentLink2URL: http://www.ti.com/general/docs/lit/getliterature.tsp?genericPartNumber=PTH12050W&fileType=pdf; ComponentLink3Description: Package Specification; ComponentLink3URL: http://www.ti.com/lit/ml/mpds142b/mpds142b.pdf; ComponentLink4Description: URL Link1; ComponentLink4URL: Samples URL:http://www.ti.com/product/pth12050w#samples
footprint TI-EUU6_V (Module, 6-Leads, Body 22.1.12x12.57mm)
pins: 1 GND (power) "This is the common ground connection for the VI and VO power connections. It is also the 0-VDC reference for the control inputs.", 2 TRACK (in) "This is an analog control input that enables the output voltage to follow an external voltage. This pin becomes active typically 20 ms after the input voltage has been applied, and allows direct control of the output voltage (See Datasheet)", 3 VI (power) "The positive input voltage power node to the module, which is referenced to common GND.", 4 ~{INHIBIT} (in) "The Inhibit pin is an open-collector/drain negative logic input that is referenced to GND. Applying a low-level ground signal to this input disables the module’s output and turns off the output voltage. When the Inhibit (See Datasheet)", 5 VO ADJUST (in) "A 1% resistor must be directly connected between this pin and GND (pin 1) to set the output voltage of the module to a value higher than its lowest value. The temperature stability of the resistor should be 100 ppm/degreesC (See Datasheet)", 6 VO (power) "The regulated positive power output with respect to the GND node."

## PTH12050WAS
designator U?
1.2 to 5.5 V, 6 A, 12 V Input Non-Isolated Wide Adjust Module, -40 to 85 degC, 6-pin Module (EUV6); Manufacturer: Texas Instruments; PartNumber: PTH12050WAS; Eco-Plan: TBD; Iout(Max)(A): 6; Regulated Outputs(#): 1; SubFamily: Non-Isolated POL; Vin(Max)(V): 13.2; Vin(Min)(V): 10.8; VO Adjustable: TRUE; Vout(Max)(V): 5.5; Vout(Min)(V): 1.2; DatasheetVersion: SLTS214H; PackageVersion: 4205247-4/C; PackageReference: EUV6; PackageDescription: 6-Pin Plastic Special Shape, Body 12.57 x 22.1 mm; Supplier 1: Digi-Key; Supplier Part Number 1: 296-20478-ND; Supplier 2: Newark; Supplier Part Number 2: 90H3329; Supplier 3: Mouser; Supplier Part Number 3: 595-PTH12050WAS; Mounting Technology: Surface Mount; ComponentLink1Description: Manufacturer URL; ComponentLink1URL: http://www.ti.com/; ComponentLink2Description: Datasheet; ComponentLink2URL: http://www.ti.com/general/docs/lit/getliterature.tsp?genericPartNumber=PTH12050W&fileType=pdf; ComponentLink3Description: Package Specification; ComponentLink3URL: http://www.ti.com/lit/ml/mpds143b/mpds143b.pdf; ComponentLink4Description: URL Link1; ComponentLink4URL: Samples URL:http://www.ti.com/product/pth12050w#samples
footprint TI-EUV6_V (Module, 6-Leads, Body 22.1x12.57mm)
pins: 1 GND (power) "This is the common ground connection for the VI and VO power connections. It is also the 0-VDC reference for the control inputs.", 2 TRACK (in) "This is an analog control input that enables the output voltage to follow an external voltage. This pin becomes active typically 20 ms after the input voltage has been applied, and allows direct control of the output voltage (See Datasheet)", 3 VI (power) "The positive input voltage power node to the module, which is referenced to common GND.", 4 ~{INHIBIT} (in) "The Inhibit pin is an open-collector/drain negative logic input that is referenced to GND. Applying a low-level ground signal to this input disables the module’s output and turns off the output voltage. When the Inhibit (See Datasheet)", 5 VO ADJUST (in) "A 1% resistor must be directly connected between this pin and GND (pin 1) to set the output voltage of the module to a value higher than its lowest value. The temperature stability of the resistor should be 100 ppm/degreesC (See Datasheet)", 6 VO (power) "The regulated positive power output with respect to the GND node."

## PTH12050WAST
designator U?
1.2 to 5.5 V, 6 A, 12 V Input Non-Isolated Wide Adjust Module, -40 to 85 degC, 6-pin Module (EUV6); Manufacturer: Texas Instruments; PartNumber: PTH12050WAST; Eco-Plan: TBD; Iout(Max)(A): 6; Regulated Outputs(#): 1; SubFamily: Non-Isolated POL; Vin(Max)(V): 13.2; Vin(Min)(V): 10.8; VO Adjustable: TRUE; Vout(Max)(V): 5.5; Vout(Min)(V): 1.2; DatasheetVersion: SLTS214H; PackageVersion: 4205247-4/C; PackageReference: EUV6; PackageDescription: 6-Pin Plastic Special Shape, Body 12.57 x 22.1 mm; Supplier 1: Digi-Key; Supplier Part Number 1: PTH12050WAST-ND; Supplier 2: Newark; Supplier Part Number 2: 01J0655; Supplier 3: Mouser; Supplier Part Number 3: 595-PTH12050WAST; Mounting Technology: Surface Mount; ComponentLink1Description: Manufacturer URL; ComponentLink1URL: http://www.ti.com/; ComponentLink2Description: Datasheet; ComponentLink2URL: http://www.ti.com/general/docs/lit/getliterature.tsp?genericPartNumber=PTH12050W&fileType=pdf; ComponentLink3Description: Package Specification; ComponentLink3URL: http://www.ti.com/lit/ml/mpds143b/mpds143b.pdf; ComponentLink4Description: URL Link1; ComponentLink4URL: Samples URL:http://www.ti.com/product/pth12050w#samples
footprint TI-EUV6_V (Module, 6-Leads, Body 22.1x12.57mm)
pins: 1 GND (power) "This is the common ground connection for the VI and VO power connections. It is also the 0-VDC reference for the control inputs.", 2 TRACK (in) "This is an analog control input that enables the output voltage to follow an external voltage. This pin becomes active typically 20 ms after the input voltage has been applied, and allows direct control of the output voltage (See Datasheet)", 3 VI (power) "The positive input voltage power node to the module, which is referenced to common GND.", 4 ~{INHIBIT} (in) "The Inhibit pin is an open-collector/drain negative logic input that is referenced to GND. Applying a low-level ground signal to this input disables the module’s output and turns off the output voltage. When the Inhibit (See Datasheet)", 5 VO ADJUST (in) "A 1% resistor must be directly connected between this pin and GND (pin 1) to set the output voltage of the module to a value higher than its lowest value. The temperature stability of the resistor should be 100 ppm/degreesC (See Datasheet)", 6 VO (power) "The regulated positive power output with respect to the GND node."